# Altium integrated library WL-SMCW SMD chip LED top view mono-color waterclear.IntLib: 19 symbols
Pins are listed as number, name and electrical type; pins without a type are passive.

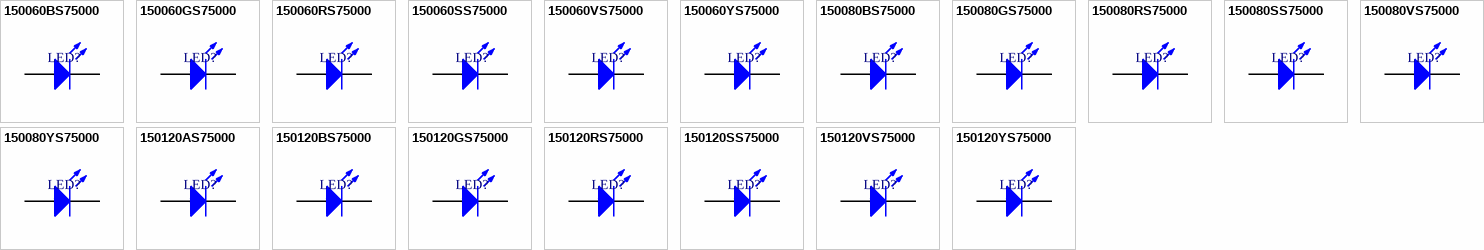
[diagram p0: symbols 150060BS75000 to 150120YS75000]

## 150060BS75000
designator LED?
SMD mono-color Chip LED, WL-SMCW, Blue; PartNumber: 150060BS75000; PackageReference: 0603_A; Color: Blue; ComponentLink1Description: Manufacturer URL; ComponentLink1URL: http://www.we-online.com; ComponentLink2Description: Datasheet; ComponentLink2URL: http://katalog.we-online.com/led/datasheet/150060BS75000.pdf
footprint 0603_A (Chip LED, 2-Leads, Body 1.6x0.8mm, IPC Medium Density)
pins: 1 K, 2 A

## 150060GS75000
designator LED?
SMD mono-color Chip LED, WL-SMCW, Green; PartNumber: 150060GS75000; PackageReference: 0603_A; Color: Green; ComponentLink1Description: Manufacturer URL; ComponentLink1URL: http://www.we-online.com; ComponentLink2Description: Datasheet; ComponentLink2URL: http://katalog.we-online.com/led/datasheet/150060GS75000.pdf
footprint 0603_A (Chip LED, 2-Leads, Body 1.6x0.8mm, IPC Medium Density)
pins: 1 K, 2 A

## 150060RS75000
designator LED?
SMD mono-color Chip LED, WL-SMCW, Red; PartNumber: 150060RS75000; PackageReference: 0603_A; Color: Red; ComponentLink1Description: Manufacturer URL; ComponentLink1URL: http://www.we-online.com; ComponentLink2Description: Datasheet; ComponentLink2URL: http://katalog.we-online.com/led/datasheet/150060RS75000.pdf
footprint 0603_A (Chip LED, 2-Leads, Body 1.6x0.8mm, IPC Medium Density)
pins: 1 K, 2 A

## 150060SS75000
designator LED?
SMD mono-color Chip LED, WL-SMCW, Super Red; PartNumber: 150060SS75000; PackageReference: 0603_A; Color: Super Red; ComponentLink1Description: Manufacturer URL; ComponentLink1URL: http://www.we-online.com; ComponentLink2Description: Datasheet; ComponentLink2URL: http://katalog.we-online.com/led/datasheet/150060SS75000.pdf
footprint 0603_A (Chip LED, 2-Leads, Body 1.6x0.8mm, IPC Medium Density)
pins: 1 K, 2 A

## 150060VS75000
designator LED?
SMD mono-color Chip LED, WL-SMCW, Bright Green; PartNumber: 150060VS75000; PackageReference: 0603_A; Color: Bright Green; ComponentLink1Description: Manufacturer URL; ComponentLink1URL: http://www.we-online.com; ComponentLink2Description: Datasheet; ComponentLink2URL: http://katalog.we-online.com/led/datasheet/150060VS75000.pdf
footprint 0603_A (Chip LED, 2-Leads, Body 1.6x0.8mm, IPC Medium Density)
pins: 1 K, 2 A

## 150060YS75000
designator LED?
SMD mono-color Chip LED, WL-SMCW, Yellow; PartNumber: 150060YS75000; PackageReference: 0603_A; Color: Yellow; ComponentLink1Description: Manufacturer URL; ComponentLink1URL: http://www.we-online.com; ComponentLink2Description: Datasheet; ComponentLink2URL: http://katalog.we-online.com/led/datasheet/150060YS75000.pdf
footprint 0603_A (Chip LED, 2-Leads, Body 1.6x0.8mm, IPC Medium Density)
pins: 1 K, 2 A

## 150080BS75000
designator LED?
SMD mono-color Chip LED, WL-SMCW, Blue; PartNumber: 150080BS75000; PackageReference: 0805_A; Color: Blue; ComponentLink1Description: Manufacturer URL; ComponentLink1URL: http://www.we-online.com; ComponentLink2Description: Datasheet; ComponentLink2URL: http://katalog.we-online.com/led/datasheet/150080BS75000.pdf
footprint 0805_A (Chip LED, 2-Leads, Body 2.0x1.3mm, IPC Medium Density)
pins: 1 K, 2 A

## 150080GS75000
designator LED?
SMD mono-color Chip LED, WL-SMCW, Green; PartNumber: 150080GS75000; PackageReference: 0805_A; Color: Green; ComponentLink1Description: Manufacturer URL; ComponentLink1URL: http://www.we-online.com; ComponentLink2Description: Datasheet; ComponentLink2URL: http://katalog.we-online.com/led/datasheet/150080GS75000.pdf
footprint 0805_A (Chip LED, 2-Leads, Body 2.0x1.3mm, IPC Medium Density)
pins: 1 K, 2 A

## 150080RS75000
designator LED?
SMD mono-color Chip LED, WL-SMCW, Red; PartNumber: 150080RS75000; PackageReference: 0805_A; Color: Red; ComponentLink1Description: Manufacturer URL; ComponentLink1URL: http://www.we-online.com; ComponentLink2Description: Datasheet; ComponentLink2URL: http://katalog.we-online.com/led/datasheet/150080RS75000.pdf
footprint 0805_A (Chip LED, 2-Leads, Body 2.0x1.3mm, IPC Medium Density)
pins: 1 K, 2 A

## 150080SS75000
designator LED?
SMD mono-color Chip LED, WL-SMCW, Super Red; PartNumber: 150080SS75000; PackageReference: 0805_A; Color: Super Red; ComponentLink1Description: Manufacturer URL; ComponentLink1URL: http://www.we-online.com; ComponentLink2Description: Datasheet; ComponentLink2URL: http://katalog.we-online.com/led/datasheet/150080SS75000.pdf
footprint 0805_A (Chip LED, 2-Leads, Body 2.0x1.3mm, IPC Medium Density)
pins: 1 K, 2 A

## 150080VS75000
designator LED?
SMD mono-color Chip LED, WL-SMCW, Bright Green; PartNumber: 150080VS75000; PackageReference: 0805_A; Color: Bright Green; ComponentLink1Description: Manufacturer URL; ComponentLink1URL: http://www.we-online.com; ComponentLink2Description: Datasheet; ComponentLink2URL: http://katalog.we-online.com/led/datasheet/150080VS75000.pdf
footprint 0805_A (Chip LED, 2-Leads, Body 2.0x1.3mm, IPC Medium Density)
pins: 1 K, 2 A

## 150080YS75000
designator LED?
SMD mono-color Chip LED, WL-SMCW, Yellow; PartNumber: 150080YS75000; PackageReference: 0805_A; Color: Yellow; ComponentLink1Description: Manufacturer URL; ComponentLink1URL: http://www.we-online.com; ComponentLink2Description: Datasheet; ComponentLink2URL: http://katalog.we-online.com/led/datasheet/150080YS75000.pdf
footprint 0805_A (Chip LED, 2-Leads, Body 2.0x1.3mm, IPC Medium Density)
pins: 1 K, 2 A

## 150120AS75000
designator LED?
SMD mono-color Chip LED, WL-SMCW, Amber; PartNumber: 150120AS75000; PackageReference: 1206_A; Color: Amber; ComponentLink1Description: Manufacturer URL; ComponentLink1URL: http://www.we-online.com; ComponentLink2Description: Datasheet; ComponentLink2URL: http://katalog.we-online.com/led/datasheet/150120AS75000.pdf
footprint 1206_A (Chip LED, 2-Leads, Body 3.2x1.6mm, IPC Medium Density)
pins: 1 K, 2 A

## 150120BS75000
designator LED?
SMD mono-color Chip LED, WL-SMCW, Blue; PartNumber: 150120BS75000; PackageReference: 1206_A; Color: Blue; ComponentLink1Description: Manufacturer URL; ComponentLink1URL: http://www.we-online.com; ComponentLink2Description: Datasheet; ComponentLink2URL: http://katalog.we-online.com/led/datasheet/150120BS75000.pdf
footprint 1206_A (Chip LED, 2-Leads, Body 3.2x1.6mm, IPC Medium Density)
pins: 1 K, 2 A

## 150120GS75000
designator LED?
SMD mono-color Chip LED, WL-SMCW, Green; PartNumber: 150120GS75000; PackageReference: 1206_A; Color: Green; ComponentLink1Description: Manufacturer URL; ComponentLink1URL: http://www.we-online.com; ComponentLink2Description: Datasheet; ComponentLink2URL: http://katalog.we-online.com/led/datasheet/150120GS75000.pdf
footprint 1206_A (Chip LED, 2-Leads, Body 3.2x1.6mm, IPC Medium Density)
pins: 1 K, 2 A

## 150120RS75000
designator LED?
SMD mono-color Chip LED, WL-SMCW, Red; PartNumber: 150120RS75000; PackageReference: 1206_A; Color: Red; ComponentLink1Description: Manufacturer URL; ComponentLink1URL: http://www.we-online.com; ComponentLink2Description: Datasheet; ComponentLink2URL: http://katalog.we-online.com/led/datasheet/150120RS75000.pdf
footprint 1206_A (Chip LED, 2-Leads, Body 3.2x1.6mm, IPC Medium Density)
pins: 1 K, 2 A

## 150120SS75000
designator LED?
SMD mono-color Chip LED, WL-SMCW, Super Red; PartNumber: 150120SS75000; PackageReference: 1206_A; Color: Super Red; ComponentLink1Description: Manufacturer URL; ComponentLink1URL: http://www.we-online.com; ComponentLink2Description: Datasheet; ComponentLink2URL: http://katalog.we-online.com/led/datasheet/150120SS75000.pdf
footprint 1206_A (Chip LED, 2-Leads, Body 3.2x1.6mm, IPC Medium Density)
pins: 1 K, 2 A

## 150120VS75000
designator LED?
SMD mono-color Chip LED, WL-SMCW, Bright Green; PartNumber: 150120VS75000; PackageReference: 1206_A; Color: Bright Green; ComponentLink1Description: Manufacturer URL; ComponentLink1URL: http://www.we-online.com; ComponentLink2Description: Datasheet; ComponentLink2URL: http://katalog.we-online.com/led/datasheet/150120VS75000.pdf
footprint 1206_A (Chip LED, 2-Leads, Body 3.2x1.6mm, IPC Medium Density)
pins: 1 K, 2 A

## 150120YS75000
designator LED?
SMD mono-color Chip LED, WL-SMCW, Yellow; PartNumber: 150120YS75000; PackageReference: 1206_A; Color: Yellow; ComponentLink1Description: Manufacturer URL; ComponentLink1URL: http://www.we-online.com; ComponentLink2Description: Datasheet; ComponentLink2URL: http://katalog.we-online.com/led/datasheet/150120YS75000.pdf
footprint 1206_A (Chip LED, 2-Leads, Body 3.2x1.6mm, IPC Medium Density)
pins: 1 K, 2 A